# Altium integrated library TANTALUM-SMD-10UF-25V_AVX-B_.IntLib: 1 symbol
Pins are listed as number, name and electrical type; pins without a type are passive.

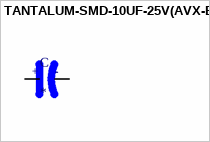
[diagram p0: symbol TANTALUM-SMD-10UF-25V(AVX-B)]

## TANTALUM-SMD-10UF-25V(AVX-B)
designator C
10ÂµF Molded Tantalum Capacitors 25V 1411 _3528 Metric_, 1210 2.5Ohm; MF: AVX Interconnect / Elco; MP: TAJB106K025RNJ; SnapEDA_Link: https://www.snapeda.com/parts/TAJB106K025RNJ/AVX%20Interconnect%20/%20Elco/view-part/105602/?ref=snap; Price: None; Package: 1210 AVX Interconnect / Elco; Value: *; Availability: Unavailable
footprint AVX-B
pins: NEG, POS
text: +; -